# Altium footprint library Display.PcbLib: 42 footprints (part 3 of 3)
Each footprint in its own frame and in the unit in brackets; x right, y up, seen from the top. Pads: shape width x height; smd on the part's side, far side on the other; paste and mask are expansions set on the pad; w line width, h text height; cw(c..) or ccw(c..) is an arc to the next point about the centre after c.
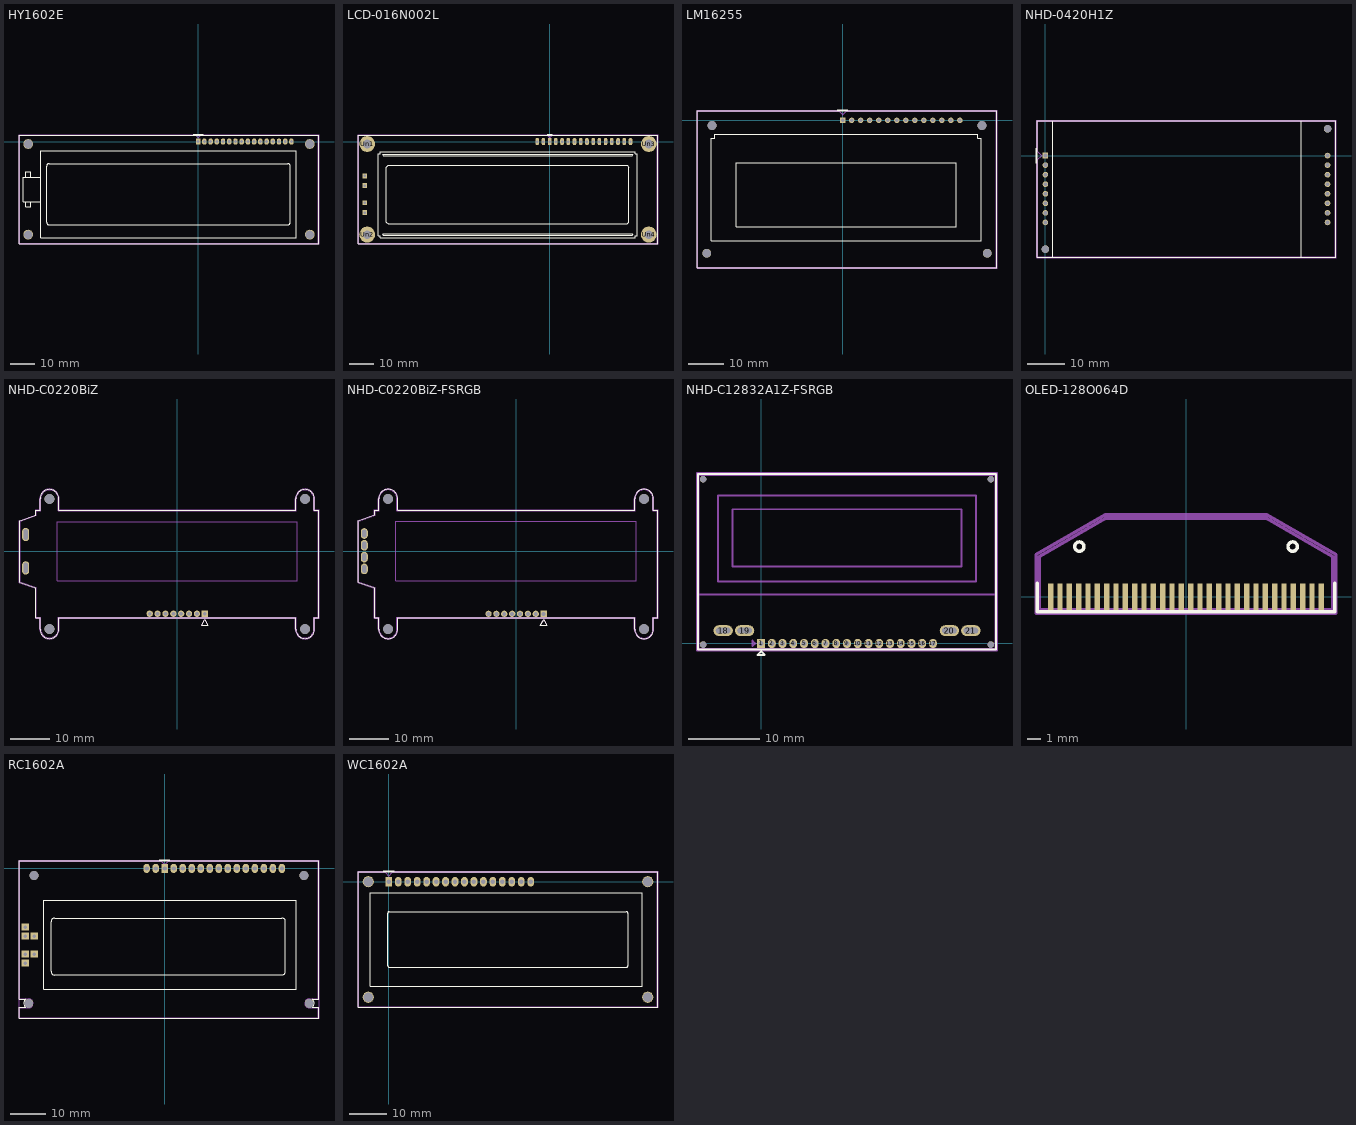
[diagram p2: the footprints below, top view; thin cyan lines are the x and y axes]

## HY1602E [mm]
pads (20):
  rect 1.8x2.6 hole 1.2: 1(0,0)
  rrect100% 1.8x2.6 hole 1.2: 2(2.54,0) 3(5.08,0) 4(7.62,0) 5(10.16,0) 6(12.7,0) 7(15.24,0) 8(17.78,0) 9(20.32,0) 10(22.86,0) 11(25.4,0) 12(27.94,0) 13(30.48,0) 14(33.02,0) 15(35.56,0) 16(38.1,0)
  round 4 hole 3.5: Un1(-69.4,-1.001) Un2(-69.4,-38.001) Un3(45.601,-1.001) Un4(45.601,-38.001)
F.SilkS:
  lines w0.254: -70.4,-24.5 -70.4,-26.7 -68.4,-26.7 -68.4,-24.5 ; -70.4,-14.5 -70.4,-12.3 -68.4,-12.3 -68.4,-14.5 ; -64.3,-24.5 -71.4,-24.5 -71.4,-14.5 -64.3,-14.5 ; -2,3 2,3 ; -73.04,-41.64 49.24,-41.64 49.24,2.64 -73.04,2.64 -73.04,-41.64 ; -64.3,-39.2 40.1,-39.2 40.1,-3.8 -64.3,-3.8 -64.3,-39.2 ; -61.9,-33 ccw(c-60.9,-33) -60.9,-34 36.6,-34 ccw(c36.6,-33) 37.6,-33 37.6,-10 ccw(c36.6,-10) 36.6,-9 -60.9,-9 ccw(c-60.9,-10) -61.9,-10 -61.9,-33
Top Assembly:
  lines w0.254: -72.9,-41.5 49.1,-41.5 49.1,2.5 1,2.5 0,1.5 -1,2.5 -72.9,2.5 -72.9,-41.5
  text "'.Designator'" at -18.057,-20.8 h1
Top Courtyard:
  lines w0.254: -73.15,-41.75 49.35,-41.75 49.35,2.75 -73.15,2.75 -73.15,-41.75
Top Designator:
  text ".Designator" at -19.518,-19.883 h1.52

## LCD-016N002L [mm]
pads (24):
  rect 1.5x3 hole 1: 1(0,0)
  rrect100% 1.5x3 hole 1: 2(2.54,0) 3(5.08,0) 4(7.62,0) 5(10.16,0) 6(12.7,0) 7(15.24,0) 8(17.78,0) 9(20.32,0) 10(22.86,0) 11(25.4,0) 12(27.94,0) 13(30.48,0) 14(33.02,0) 15(-2.54,0) 16(-5.08,0)
  rect 2x2 hole 1: A1(-75.5,-14) A2(-75.5,-25) K1(-75.5,-18) K2(-75.5,-29)
  round 6.5 hole 3.5: Un1(-74.5,-1) Un2(-74.5,-38) Un3(40.5,-1) Un4(40.5,-38)
F.SilkS:
  lines w0.254: -1,3 1,3 ; -78.14,-41.64 44.14,-41.64 44.14,2.64 -78.14,2.64 -78.14,-41.64 ; -69.977,-38.481 -69.215,-38.481 -69.215,-39.243 34.925,-39.243 34.925,-38.481 35.687,-38.481 35.687,-4.953 34.925,-4.953 34.925,-4.191 -69.215,-4.191 -69.215,-4.953 -69.977,-4.953 -69.977,-38.481 ; -68.199,-37.973 -67.945,-37.719 33.655,-37.719 33.909,-37.973 33.655,-38.227 -67.945,-38.227 -68.199,-37.973 ; -68.199,-5.461 -67.945,-5.207 33.655,-5.207 33.909,-5.461 33.655,-5.715 -67.945,-5.715 -68.199,-5.461 ; -66.675,-32.893 -65.913,-33.655 31.623,-33.655 32.385,-32.893 32.385,-10.541 31.623,-9.779 -65.913,-9.779 -66.675,-10.541 -66.675,-32.893
Top Assembly:
  lines w0.254: -78,-41.5 44,-41.5 44,2.5 1,2.5 0,1.5 -1,2.5 -78,2.5 -78,-41.5
  text "'.Designator'" at -23.597,-22.91 h1
Top Courtyard:
  lines w0.254: -78.25,-41.75 44.25,-41.75 44.25,2.75 -78.25,2.75 -78.25,-41.75
Top Designator:
  text ".Designator" at -24.618,-19.883 h1.52

## LM16255 [mil]
pads (18):
  rect 60x60 hole 40: 1(0,0)
  round 60 hole 40: 2(100,0) 3(200,0) 4(300,0) 5(400,0) 6(500,0) 7(600,0) 8(700,0) 9(800,0) 10(900,0) 11(1000,0) 12(1100,0) 13(1200,0) 14(1300,0)
  round 98.43 hole 98.43: Un1(-1507.09,-1474.8) Un2(-1448.03,-57.48) Un3(1544.09,-57.48) Un4(1603.15,-1474.8)
F.SilkS:
  lines w10: -59.06,118.11 59.06,118.11 ; -1611.02,-1637.8 1707.09,-1637.8 1707.09,105.51 -1611.02,105.51 -1611.02,-1637.8 ; -1456.69,-1338.58 1535.43,-1338.58 1535.43,-196.85 1496.06,-196.85 1496.06,-157.48 -1417.32,-157.48 -1417.32,-196.85 -1456.69,-196.85 -1456.69,-1338.58 ; -1181.1,-1181.1 1259.84,-1181.1 1259.84,-472.44 -1181.1,-472.44 -1181.1,-1181.1
Top Assembly:
  lines w10: -1605.51,-1632.28 1701.57,-1632.28 1701.57,100 39.37,100 0,60.63 -39.37,100 -1605.51,100 -1605.51,-1632.28
  text "'.Designator'" at -148.3,-863.79 h39.37
Top Courtyard:
  lines w10: -1615.35,-1642.13 1711.42,-1642.13 1711.42,109.84 -1615.35,109.84 -1615.35,-1642.13
Top Designator:
  text ".Designator" at -251.87,-782 h60

## NHD-0420H1Z [mm]
pads (18):
  rect 1.5x1.5 hole 1: 1(0,0)
  round 1.5 hole 1: 2(0,-2.54) 3(0,-5.08) 4(0,-7.62) 5(0,-10.16) 6(0,-12.7) 7(0,-15.24) 8(0,-17.78) 9(75,0) 10(75,-2.54) 11(75,-5.08) 12(75,-7.62) 13(75,-10.16) 14(75,-12.7) 15(75,-15.24) 16(75,-17.78)
  round 2 hole 2: Un1(0,-24.89) Un2(75,7.11)
F.SilkS:
  lines w0.254: -2.5,-2 -2.5,2 ; 2,-27.01 2,9.23 ; 68,-27.01 68,9.23 ; -2.12,-27.01 77.12,-27.01 77.12,9.23 -2.12,9.23 -2.12,-27.01
Top Assembly:
  lines w0.254: -2,-26.89 77,-26.89 77,9.11 -2,9.11 -2,1 -1,0 -2,-1 -2,-26.89
  text "'.Designator'" at 33.453,-9.73 h1
Top Courtyard:
  lines w0.254: -2.25,-27.14 77.25,-27.14 77.25,9.36 -2.25,9.36 -2.25,-27.14
Top Designator:
  text ".Designator" at 29.757,-9.398 h1.52

## NHD-C0220BiZ [mm]
pads (14):
  rect 1.6x1.6 hole 1: 1(7,-15.9)
  round 1.6 hole 1: 2(5,-15.9) 3(3,-15.9) 4(1,-15.9) 5(-1,-15.9) 6(-3,-15.9) 7(-5,-15.9) 8(-7,-15.9)
  rrect100% 1.8x3.4 hole 2.6 slot 1 at 0 deg: 9(-38.55,-4.25) 10(-38.55,4.25)
  round 2.5 hole 2.5: Un1(-32.5,13.3) Un2(-32.5,-19.8) Un3(32.5,13.3) Un4(32.5,-19.8)
F.SilkS:
  lines w0.254: -40.05,-7.9 -35.95,-9.3 -35.95,-16.95 -34.9,-16.95 -34.9,-19.8 ccw(c-32.5,-19.8) -30.1,-19.8 -30.1,-16.95 30.1,-16.95 30.1,-19.8 ccw(c32.5,-19.8) 34.9,-19.8 34.9,-16.95 35.95,-16.95 35.95,10.45 34.9,10.45 34.9,13.3 ccw(c32.5,13.3) 30.1,13.3 30.1,10.45 -30.1,10.45 -30.1,13.3 ccw(c-32.5,13.3) -34.9,13.3 -34.9,10.45 -35.95,10.45 -35.95,9.2 -40.05,7.7 -40.05,-7.9 ; 6.2,-18.8 7.8,-18.8 7,-17.4 6.2,-18.8
Top Assembly:
  lines w0.254: -30.252,-19.717 cw(c-32.5,-19.8) -34.75,-19.8 -34.75,-16.8 -35.8,-16.8 -35.8,-9.2 -39.9,-7.8 -39.9,7.6 -35.8,9.1 -35.8,10.3 -34.75,10.3 -34.75,13.3 cw(c-32.5,13.3) -30.25,13.3 -30.25,10.3 30.25,10.3 30.25,13.3 cw(c32.5,13.3) 34.75,13.3 34.75,10.3 35.8,10.3 35.8,-16.8 34.75,-16.8 34.75,-19.8 cw(c32.5,-19.8) 30.25,-19.8 30.25,-16.8 -30.25,-16.8 -30.25,-19.7 ; 6.2,-18.8 7,-17.4 7.8,-18.8 6.2,-18.8
  text "'.Designator'" at -4.047,-0.84 h1
Top Courtyard:
  lines w0.254: -40.15,-8 -36.05,-9.4 -36.05,-17.05 -35,-17.05 -35,-19.8 ccw(c-32.5,-19.8) -30,-19.8 -30,-17.05 30,-17.05 30,-19.8 ccw(c32.5,-19.8) 35,-19.8 35,-17.05 36.05,-17.05 36.05,10.55 35,10.55 35,13.3 ccw(c32.5,13.3) 30,13.3 30,10.55 -30,10.55 -30,13.3 ccw(c-32.5,13.3) -35,13.3 -35,10.55 -36.05,10.55 -36.05,9.3 -40.15,7.8 -40.15,-8
Top Designator:
  text ".Designator" at -9.668,-3.758 h1.52
Dwgs.User:
  lines w0.254: -30.5,-7.55 30.5,-7.55 30.5,7.55 -30.5,7.55 -30.5,-7.55
Cmts.User:
  text "DISPLAY AREA" at -19.829,-2.5 h4

## NHD-C0220BiZ-FSRGB [mm]
pads (16):
  rect 1.6x1.6 hole 1: 1(7,-15.9)
  round 1.6 hole 1: 2(5,-15.9) 3(3,-15.9) 4(1,-15.9) 5(-1,-15.9) 6(-3,-15.9) 7(-5,-15.9) 8(-7,-15.9)
  rrect100% 1.8x2.7 hole 1.9 slot 1 at 0 deg: 9(-38.55,-4.5) 10(-38.55,-1.5) 11(-38.55,1.5) 12(-38.55,4.5)
  round 2.5 hole 2.5: Un1(-32.5,13.3) Un2(-32.5,-19.8) Un3(32.5,13.3) Un4(32.5,-19.8)
F.SilkS:
  lines w0.254: -40.05,-7.9 -35.95,-9.3 -35.95,-16.95 -34.9,-16.95 -34.9,-19.8 ccw(c-32.5,-19.8) -30.1,-19.8 -30.1,-16.95 30.1,-16.95 30.1,-19.8 ccw(c32.5,-19.8) 34.9,-19.8 34.9,-16.95 35.95,-16.95 35.95,10.45 34.9,10.45 34.9,13.3 ccw(c32.5,13.3) 30.1,13.3 30.1,10.45 -30.1,10.45 -30.1,13.3 ccw(c-32.5,13.3) -34.9,13.3 -34.9,10.45 -35.95,10.45 -35.95,9.2 -40.05,7.7 -40.05,-7.9 ; 6.2,-18.8 7.8,-18.8 7,-17.4 6.2,-18.8
Top Assembly:
  lines w0.254: -30.252,-19.717 cw(c-32.5,-19.8) -34.75,-19.8 -34.75,-16.8 -35.8,-16.8 -35.8,-9.2 -39.9,-7.8 -39.9,7.6 -35.8,9.1 -35.8,10.3 -34.75,10.3 -34.75,13.3 cw(c-32.5,13.3) -30.25,13.3 -30.25,10.3 30.25,10.3 30.25,13.3 cw(c32.5,13.3) 34.75,13.3 34.75,10.3 35.8,10.3 35.8,-16.8 34.75,-16.8 34.75,-19.8 cw(c32.5,-19.8) 30.25,-19.8 30.25,-16.8 -30.25,-16.8 -30.25,-19.7 ; 6.2,-18.8 7,-17.4 7.8,-18.8 6.2,-18.8
  text "'.Designator'" at -4.047,-0.84 h1
Top Courtyard:
  lines w0.254: -40.15,-8 -36.05,-9.4 -36.05,-17.05 -35,-17.05 -35,-19.8 ccw(c-32.5,-19.8) -30,-19.8 -30,-17.05 30,-17.05 30,-19.8 ccw(c32.5,-19.8) 35,-19.8 35,-17.05 36.05,-17.05 36.05,10.55 35,10.55 35,13.3 ccw(c32.5,13.3) 30,13.3 30,10.55 -30,10.55 -30,13.3 ccw(c-32.5,13.3) -35,13.3 -35,10.55 -36.05,10.55 -36.05,9.3 -40.15,7.8 -40.15,-8
Top Designator:
  text ".Designator" at -9.668,-3.758 h1.52
Dwgs.User:
  lines w0.254: -30.5,-7.55 30.5,-7.55 30.5,7.55 -30.5,7.55 -30.5,-7.55
Cmts.User:
  text "DISPLAY AREA" at -19.829,-2.5 h4

## NHD-C12832A1Z-FSRGB [mm]
pads (25):
  rect 1.1x1.3 hole 0.7: 1(0,0)
  rrect100% 1.1x1.3 hole 0.7: 2(1.5,0) 3(3,0) 4(4.5,0) 5(6,0) 6(7.5,0) 7(9,0) 8(10.5,0) 9(12,0) 10(13.5,0) 11(15,0) 12(16.5,0) 13(18,0) 14(19.5,0) 15(21,0) 16(22.5,0) 17(24,0)
  rrect100% 2.7x1.5 hole 0.8 slot 2 at 0 deg: 18(-5.3,1.8) 19(-2.3,1.8) 20(26.3,1.8) 21(29.3,1.8)
  round 0.9 hole 0.9: Un1(-8.1,22.95) Un2(-8.1,-0.15) Un3(32.1,22.95) Un4(32.1,-0.15)
F.SilkS:
  lines w0.254: -8.81,-0.86 32.81,-0.86 32.81,23.66 -8.81,23.66 -8.81,-0.86 ; -0.5,-1.6 0.5,-1.6 0,-1.1 -0.5,-1.6
Top Assembly:
  lines w0.254: -8.7,6.85 32.7,6.85 ; -8.7,-0.75 32.7,-0.75 32.7,23.55 -8.7,23.55 -8.7,-0.75 ; -6,8.65 30,8.65 30,20.65 -6,20.65 -6,8.65 ; -3.99,10.76 27.99,10.76 27.99,18.74 -3.99,18.74 -3.99,10.76 ; -1.2,-0.4 -0.8,0 -1.2,0.4 -1.2,-0.4
  text "'.Designator'" at 7.953,10.56 h1
Top Courtyard:
  lines w0.254: -8.95,-1 32.95,-1 32.95,23.8 -8.95,23.8 -8.95,-1
Top Designator:
  text ".Designator" at 4.382,10.592 h1.52
Cmts.User:
  text "DISPLAY AREA" at 2.035,13.45 h2

## OLED-128O064D [mm]
pads (30):
  rect 0.4x2 smd: 1(-10.15,0) 2(-9.45,0) 3(-8.75,0) 4(-8.05,0) 5(-7.35,0) 6(-6.65,0) 7(-5.95,0) 8(-5.25,0) 9(-4.55,0) 10(-3.85,0) 11(-3.15,0) 12(-2.45,0) 13(-1.75,0) 14(-1.05,0) 15(-0.35,0) 16(0.35,0) 17(1.05,0) 18(1.75,0) 19(2.45,0) 20(3.15,0) 21(3.85,0) 22(4.55,0) 23(5.25,0) 24(5.95,0) 25(6.65,0) 26(7.35,0) 27(8.05,0) 28(8.75,0) 29(9.45,0) 30(10.15,0)
F.SilkS:
  circle w0.254: c8,3.75 r0.35
  circle w0.254: c-8,3.75 r0.35
  lines w0.254: -11.15,1 -11.15,-1.15 11.15,-1.15 11.15,1
Top Assembly:
  lines w0.254: -11,-1 11,-1 11,3 6,5.887 -6,5.887 -11,3 -11,-1
  text "'.Designator'" at -4.397,-2.94 h1
Top Courtyard:
  lines w0.254: -11.25,-1.25 11.25,-1.25 11.25,3.14 6.05,6.14 -6.05,6.14 -11.25,3.14 -11.25,-1.25
Top Designator:
  text ".Designator" at -7.618,0.914 h1.52

## RC1602A [mm]
pads (26):
  rect 1.8x2.6 hole 1.2: 1(0,0)
  rrect100% 1.8x2.6 hole 1.2: 2(2.54,0) 3(5.08,0) 4(7.62,0) 5(10.16,0) 6(12.7,0) 7(15.24,0) 8(17.78,0) 9(20.32,0) 10(22.86,0) 11(25.4,0) 12(27.94,0) 13(30.485,-0.003) 14(33.02,0) 15(-5.08,0) 16(-2.535,-0.003)
  rect 2x2 hole 1: A1(-39.28,-26.68) A1(-39.28,-24.14) A1(-36.74,-24.14) K1(-39.28,-19.06) K1(-39.28,-16.52) K1(-36.74,-19.06)
  round 2.5 hole 2.5: Un1(-38.28,-38) Un2(-36.78,-2) Un3(39.22,-2) Un4(40.72,-38)
F.SilkS:
  lines w0.254: -39.39,-38.82 cw(c-38.28,-38) -39.1,-36.89 -40.92,-36.89 -40.92,2.14 43.36,2.14 43.36,-36.89 41.5,-36.89 cw(c40.73,-38) 41.84,-38.77 ; -39.39,-37.18 ccw(c-38.28,-38) -39.1,-39.11 -40.92,-39.11 -40.92,-42.14 43.36,-42.14 43.36,-39.11 41.5,-39.11 ; -32.003,-15.002 cw(c-31.005,-15.002) -31.005,-14.004 ; -32,-29 -32,-15 ; -31.995,-29.023 ccw(c-30.995,-29.023) -30.995,-30.024 ; -31,-30 33,-30 ; -31,-14 33,-14 ; -1.5,2.5 1.5,2.5 ; 33.026,-30.004 ccw(c33.026,-29.003) 34.027,-29.003 ; 33.036,-13.994 cw(c33.036,-14.992) 34.034,-14.992 ; 34.03,-29 34.03,-15 ; 41.51,-39.12 ccw(c40.72,-38) 41.84,-37.21 ; -34,-34 37,-34 37,-9 -34,-9 -34,-34
Top Assembly:
  lines w0.254: -40.78,-42 43.22,-42 43.22,-39.25 40.72,-39.25 ; -40.78,-41.99 -40.78,-39.25 -38.28,-39.25 ; -38.28,-39.24 ccw(c-38.28,-38) -37.04,-38 ccw(c-38.28,-38) -38.28,-36.76 ; -38.28,-36.75 -40.78,-36.75 -40.78,2 -1,2 0,1 1,2 43.22,2 43.22,-36.75 40.72,-36.75 ; 39.47,-38.01 ccw(c40.72,-38) 40.73,-39.25 ; 39.47,-37.99 cw(c40.72,-38) 40.73,-36.75
  text "'.Designator'" at -3.862,-22.545 h1
Top Courtyard:
  lines w0.254: -41.03,-42.25 43.47,-42.25 43.47,2.25 -41.03,2.25 -41.03,-42.25
Top Designator:
  text ".Designator" at -6.398,-20.383 h1.52

## WC1602A [mm]
pads (20):
  rect 1.8x2.6 hole 1.2: 1(0,0)
  rrect100% 1.8x2.6 hole 1.2: 2(2.54,0) 3(5.08,0) 4(7.62,0) 5(10.16,0) 6(12.7,0) 7(15.24,0) 8(17.78,0) 9(20.32,0) 10(22.86,0) 11(25.4,0) 12(27.94,0) 13(30.48,0) 14(33.02,0) 15(35.56,0) 16(38.1,0)
  round 3 hole 2.5: Un1(-5.499,0) Un2(-5.499,-31.001) Un3(69.499,-31.001) Un4(69.5,0)
F.SilkS:
  lines w0.254: -8.14,2.64 -8.14,-33.64 72.14,-33.64 72.14,2.64 -7.34,2.64 -8.13,2.64 ; -1.5,3 1.5,3 ; -0.3,-8.5 -0.3,-22.499 ccw(c0.201,-22.499) 0.201,-23 ; -0.3,-8.499 cw(c0.201,-8.499) 0.201,-7.998 ; 0.2,-23 63.701,-23 ccw(c63.701,-22.499) 64.201,-22.499 ; 0.2,-8 63.7,-8 cw(c63.7,-8.5) 64.2,-8.5 64.2,-22.5 ; -5,-28 68,-28 68,-3 -5,-3 -5,-28
Top Assembly:
  lines w0.254: -8,-33.5 72,-33.5 72,2.5 1,2.5 0,1.5 -1,2.5 -8,2.5 -8,-33.5
  text "'.Designator'" at 26.373,-15.53 h1
Top Courtyard:
  lines w0.254: -8.25,-33.75 72.25,-33.75 72.25,2.75 -8.25,2.75 -8.25,-33.75
Top Designator:
  text ".Designator" at 24.382,-15.883 h1.52